# EAGLE library part TPS54560 (library texas-instruments)
4.5V to 60V Input, 5A, Step Down DC-DC Converter with Eco-mode™ The TPS54560 is a 60V, 5A, step down regulator with an integrated high side MOSFET. The device survives load dump pulses up to 65V per ISO 7637. Current mode control provides simple external compensation and flexible component selection. A low ripple pulse skip mode reduces the no load supply current to 146 μA. Shutdown supply current is reduced to 2 μA when the enable pin is pulled low. Undervoltage lockout is internally set at 4.3 V but can be increased using the enable pin. The output voltage start up ramp is internally controlled to provide a controlled start up and eliminate overshoot. A wide switching frequency range allows either efficiency or external component size to be optimized. Output current is limited cycle-by-cycle. Frequency foldback and thermal shutdown protects internal and external components during an overload condition. The TPS54560 is available in an 8-pin thermally enhanced HSOIC PowerPAD™ package.
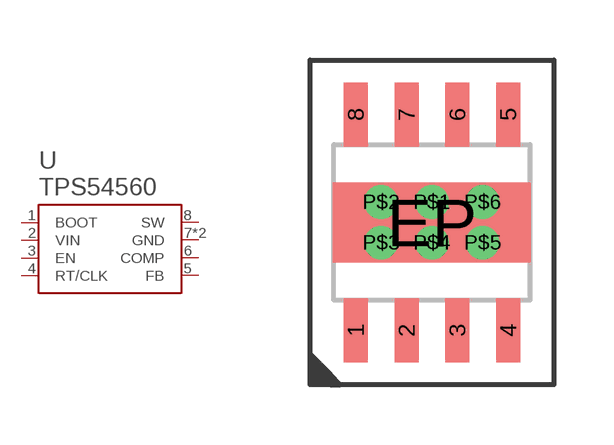
[diagram p9: symbol with the pads of PSOP-8-POWERPAD-DDA; footprint PSOP-8-POWERPAD-DDA]

Designator prefix U

## TPS54560  [PSOP-8-POWERPAD-DDA]
1  BOOT
2  VIN
3  EN
4  RT/CLK
5  FB
6  COMP
7  GND
8  SW
EP  GND

## Footprint PSOP-8-POWERPAD-DDA (pad centres in mm)
smd 0.6 x 1.6: 1 -1.905,-2.7; 2 -0.635,-2.7; 3 0.635,-2.7; 4 1.905,-2.7; 5 1.905,2.7; 6 0.635,2.7; 7 -0.635,2.7; 8 -1.905,2.7
smd 4.95 x 2: EP 0,0
drill 0.33: P$1 0,0.508; P$2 -1.27,0.508; P$3 -1.27,-0.508; P$4 0,-0.508; P$5 1.27,-0.508; P$6 1.27,0.508